# EAGLE library part ESP32DEVKIT (library disdev)
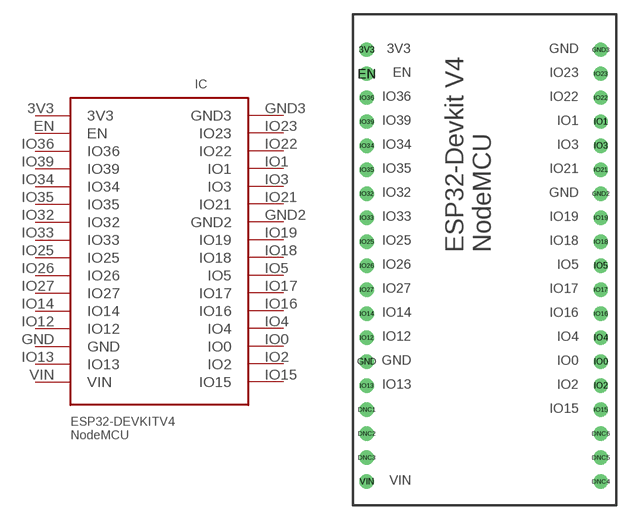
[diagram p1: symbol with the pads of ESP32-DEVKIT; footprint ESP32-DEVKIT]

Designator prefix IC

## ESP32DEVKIT  [ESP32-DEVKIT]
3V3  3V3  pwr
EN  EN
GND  GND  pwr
GND2  GND2  pwr
GND3  GND3  pwr
IO0  IO0
IO1  IO1
IO2  IO2
IO3  IO3
IO4  IO4
IO5  IO5
IO12  IO12
IO13  IO13
IO14  IO14
IO15  IO15
IO16  IO16
IO17  IO17
IO18  IO18
IO19  IO19
IO21  IO21
IO22  IO22
IO23  IO23
IO25  IO25
IO26  IO26
IO27  IO27
IO32  IO32
IO33  IO33
IO34  IO34
IO35  IO35
IO36  IO36
IO39  IO39
VIN  VIN  pwr

## Footprint ESP32-DEVKIT (pad centres in mm)
drill 1: 3V3 -17.58,16.5; DNC1 -17.58,-21.6; DNC2 -17.58,-24.14; DNC3 -17.58,-26.68; DNC4 7.19,-29.22; DNC5 7.19,-26.68; DNC6 7.19,-24.14; EN -17.58,13.96; GND -17.58,-16.52; GND2 7.19,1.26; GND3 7.19,16.5; IO0 7.19,-16.52; IO1 7.19,8.88; IO2 7.19,-19.06; IO3 7.19,6.34; IO4 7.19,-13.98; IO5 7.19,-6.36; IO12 -17.58,-13.98; IO13 -17.58,-19.06; IO14 -17.58,-11.44; IO15 7.19,-21.6; IO16 7.19,-11.44; IO17 7.19,-8.9; IO18 7.19,-3.82; IO19 7.19,-1.28; IO21 7.19,3.8; IO22 7.19,11.42; IO23 7.19,13.96; IO25 -17.58,-3.82; IO26 -17.58,-6.36; IO27 -17.58,-8.9; IO32 -17.58,1.26; IO33 -17.58,-1.28; IO34 -17.58,6.34; IO35 -17.58,3.8; IO36 -17.58,11.42; IO39 -17.58,8.88; VIN -17.58,-29.22